# Altium schematic symbol library HEADER_1x24.Schlib: 1 symbol
Pins are listed as number, name and electrical type; pins without a type are passive.

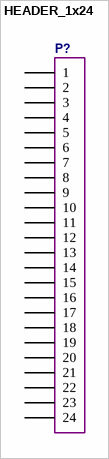
[diagram p0: symbol HEADER_1x24]

## HEADER_1x24
designator P?, comment HEADER_1x10  (value not drawn)
Header, 10-Pin; Manufacturer Part Number: 68712414022
pins: 1, 2, 3, 4, 5, 6, 7, 8, 9, 10, 11, 12, 13, 14, 15, 16, 17, 18, 19, 20, 21, 22, 23, 24